# Altium footprint library WE-HEPC.PcbLib: 2 footprints
Each footprint in its own frame and in the unit in brackets; x right, y up, seen from the top. Pads: shape width x height; smd on the part's side, far side on the other; paste and mask are expansions set on the pad; w line width, h text height; cw(c..) or ccw(c..) is an arc to the next point about the centre after c.
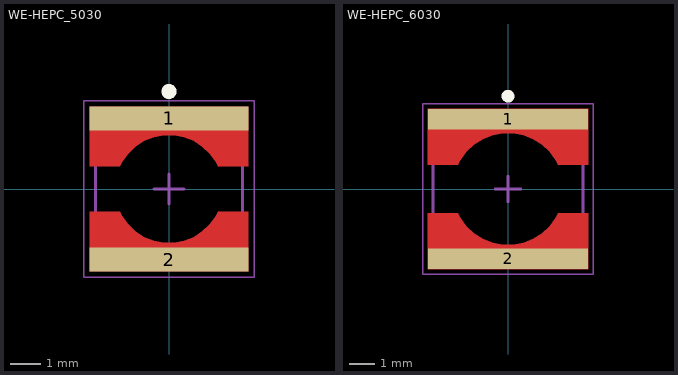
[diagram p0: the footprints below, top view; thin cyan lines are the x and y axes]

## WE-HEPC_5030 [mm] "SMT Power Inductor, 2-leads, body 4.90 x 4.90mm"
height 2.85
pads (2):
  rect 5.3x0.8 smd paste-2539.97 mask+0.102: 1(0,2.35) 2(0,-2.35)
Top Layer:
  region: -2.65,0.75 -2.65,2.75 2.65,2.75 2.65,0.75 1.636,0.75 1.558,0.902 1.359,1.18 1.112,1.415 0.825,1.6 0.507,1.727 0.172,1.792 -0.17,1.792 -0.505,1.728 -0.822,1.601 -1.11,1.417 -1.358,1.182 -1.557,0.904 -1.635,0.752 -1.635,0.75
  region: -2.65,-0.75 -2.65,-2.75 2.65,-2.75 2.65,-0.75 1.636,-0.75 1.558,-0.902 1.359,-1.18 1.112,-1.415 0.825,-1.6 0.507,-1.727 0.172,-1.792 -0.17,-1.792 -0.505,-1.728 -0.822,-1.601 -1.11,-1.417 -1.358,-1.182 -1.557,-0.904 -1.635,-0.752 -1.635,-0.75
Top Overlay:
  circle w0.25: c0,3.25 r0.125
Top Assembly:
  circle w0.1: c-1.65,1.65 r0.4
  lines w0.1: -2.45,-2.45 2.45,-2.45 2.45,2.45 -2.45,2.45 -2.45,-2.45
Top Designator:
  text ".Designator" at -3.647,-0.357 h1
Top Courtyard:
  lines w0.05: -2.85,-2.95 2.85,-2.95 2.85,2.95 -2.85,2.95 -2.85,-2.95
Top Component Center:
  lines w0.1: -0.5,0 0.5,0 ; 0,-0.5 0,0.5
3D body "74408053xxx.stp": height 2.85, standoff 0, extent -2.45,-2.45 2.45,2.45

## WE-HEPC_6030 [mm] "SMT Power Inductor, 2-leads, body 5.90 x 5.90mm"
height 2.85
pads (2):
  rect 6.3x0.8 smd paste-2539.97 mask+0.102: 1(0,2.75) 2(0,-2.75)
Top Layer:
  region: -3.15,0.95 -3.15,3.15 3.15,3.15 3.15,0.95 1.984,0.95 1.887,1.132 1.643,1.463 1.342,1.744 0.993,1.963 0.611,2.114 0.206,2.19 -0.205,2.19 -0.61,2.114 -0.993,1.963 -1.341,1.744 -1.642,1.464 -1.886,1.132 -1.984,0.951 -1.984,0.95
  region: -3.15,-0.95 -3.15,-3.15 3.15,-3.15 3.15,-0.95 1.984,-0.95 1.887,-1.132 1.643,-1.463 1.342,-1.744 0.993,-1.963 0.611,-2.114 0.206,-2.19 -0.205,-2.19 -0.61,-2.114 -0.993,-1.963 -1.341,-1.744 -1.642,-1.464 -1.886,-1.132 -1.984,-0.951 -1.984,-0.95
Top Overlay:
  circle w0.25: c0,3.65 r0.125
Top Assembly:
  circle w0.1: c-2.15,2.15 r0.4
  lines w0.1: -2.95,-2.95 2.95,-2.95 2.95,2.95 -2.95,2.95 -2.95,-2.95
Top Designator:
  text ".Designator" at -3.647,-0.357 h1
Top Courtyard:
  lines w0.05: -3.35,-3.35 3.35,-3.35 3.35,3.35 -3.35,3.35 -3.35,-3.35
Top Component Center:
  lines w0.1: -0.5,0 0.5,0 ; 0,-0.5 0,0.5
3D body "74408063xxx.stp": height 2.85, standoff 0, extent -2.95,-2.95 2.95,2.95